# EAGLE library part ILI9325_LCD (library adafruit)
2.8" ILI9325-based TFT LCD w/Integrated Touch Screen
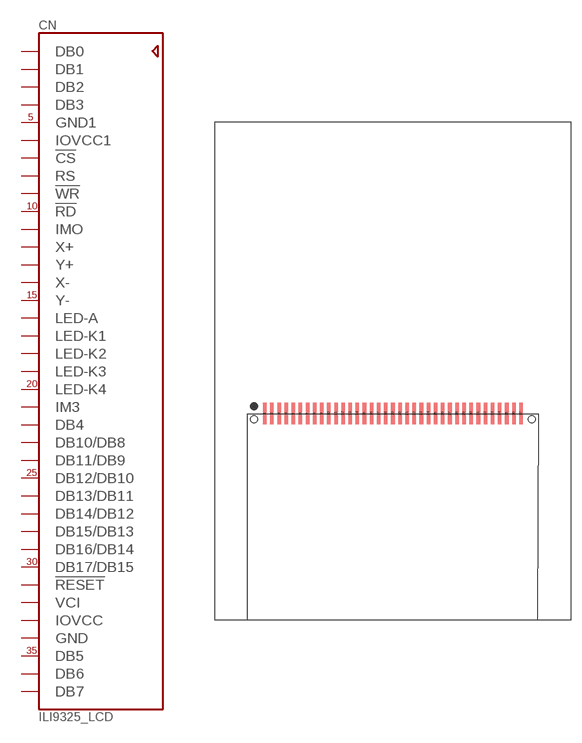
[diagram p51: symbol with the pads of ILI9325_28INCH_TS; footprint ILI9325_28INCH_TS]

Designator prefix CN

## ILI9325_LCD1.0MM  [ILI9325_28INCH_TS]
1  DB0  pas
2  DB1  pas
3  DB2  pas
4  DB3  pas
5  GND1  pwr
6  IOVCC1  pwr
7  !CS  pas
8  RS  pas
9  !WR  pas
10  !RD  pas
11  IMO  pas
12  X+  pas
13  Y+  pas
14  X-  pas
15  Y-  pas
16  LED-A  pas
17  LED-K1  pas
18  LED-K2  pas
19  LED-K3  pas
20  LED-K4  pas
21  IM3  pas
22  DB4  pas
23  DB10/DB8  pas
24  DB11/DB9  pas
25  DB12/DB10  pas
26  DB13/DB11  pas
27  DB14/DB12  pas
28  DB15/DB13  pas
29  DB16/DB14  pas
30  DB17/DB15  pas
31  !RESET  pas
32  VCI  pwr
33  IOVCC  pwr
34  GND  pwr
35  DB5  pas
36  DB6  pas
37  DB7  pas

## Footprint ILI9325_28INCH_TS (pad centres in mm)
1.0mm-Pitch 37 Pin LCD Connector
smd 0.5 x 3: 1 -18,29.04; 2 -17,29.04; 3 -16,29.04; 4 -15,29.04; 5 -14,29.04; 6 -13,29.04; 7 -12,29.04; 8 -11,29.04; 9 -10,29.04; 10 -9,29.04; 11 -8,29.04; 12 -7,29.04; 13 -6,29.04; 14 -5,29.04; 15 -4,29.04; 16 -3,29.04; 17 -2,29.04; 18 -1,29.04; 19 0,29.04; 20 1,29.04; 21 2,29.04; 22 3,29.04; 23 4,29.04; 24 5,29.04; 25 6,29.04; 26 7,29.04; 27 8,29.04; 28 9,29.04; 29 10,29.04; 30 11,29.04; 31 12,29.04; 32 13,29.04; 33 14,29.04; 34 15,29.04; 35 16,29.04; 36 17,29.04; 37 18,29.04
hole 1 at -19.5,28.24
hole 1 at 19.5,28.24